# Altium schematic symbol library RES.SchLib: 321 symbols (part 2 of 3)
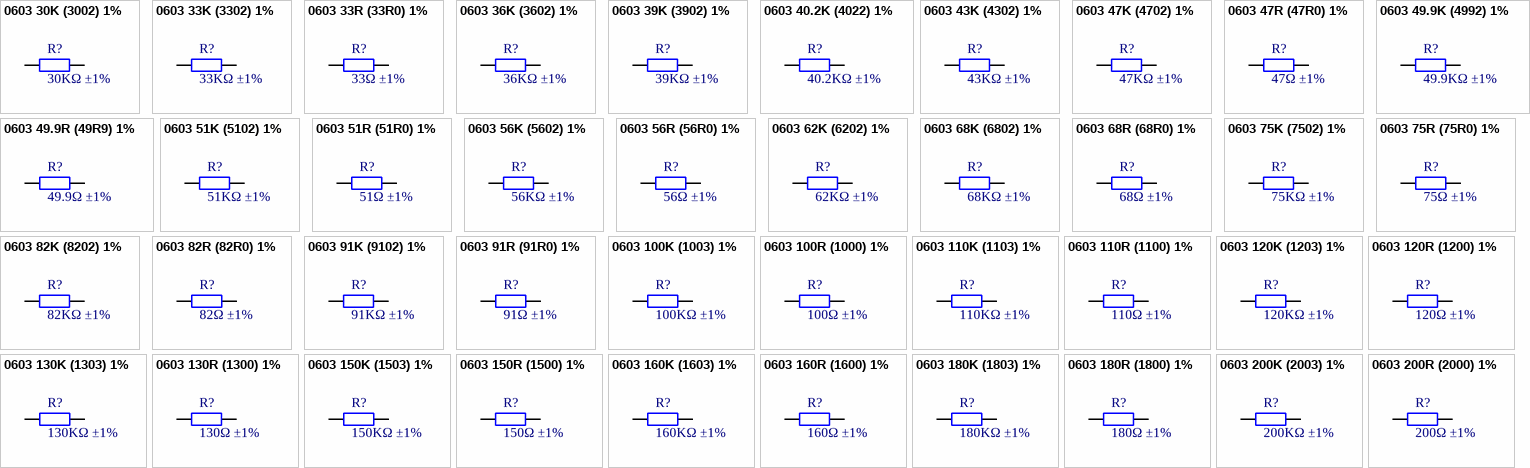
[diagram p9: symbols 0603 30K (3002) 1% to 0603 200R (2000) 1%]

## 0603 56R (56R0) 1%
designator R?, comment 56Ω ±1%
Chip resistor; Manufacturer: Uniroyal Elec; PartNumber: 0603WAF560JT5E; Power: 1/10W; ComponentLink1Description: Supplier link; ComponentLink1URL: http://www.szlcsc.com/product/details_25939.html; Package: 0603; Supplier: LC; SuppliersPartNumber: C25196; Resistance: 56Ω; Tolerance: 1%
footprint 0603_R
pins: 1, 2

## 0603 62K (6202) 1%
designator R?, comment 62KΩ ±1%
Chip resistor; Manufacturer: Uniroyal Elec; PartNumber: 0603WAF6202T5E; Power: 1/10W; ComponentLink1Description: Supplier link; ComponentLink1URL: http://www.szlcsc.com/product/details_23948.html; Package: 0603; Supplier: LC; SuppliersPartNumber: C23221; Resistance: 62KΩ; Tolerance: 1%
footprint 0603_R
pins: 1, 2

## 0603 68K (6802) 1%
designator R?, comment 68KΩ ±1%
Chip resistor; Manufacturer: Uniroyal Elec; PartNumber: 0603WAF6802T5E; Power: 1/10W; ComponentLink1Description: Supplier link; ComponentLink1URL: http://www.szlcsc.com/product/details_23958.html; Package: 0603; Supplier: LC; SuppliersPartNumber: C23231; Resistance: 68KΩ; Tolerance: 1%
footprint 0603_R
pins: 1, 2

## 0603 68R (68R0) 1%
designator R?, comment 68Ω ±1%
Chip resistor; Manufacturer: Uniroyal Elec; PartNumber: 0603WAF680JT5E; Power: 1/10W; ComponentLink1Description: Supplier link; ComponentLink1URL: http://www.szlcsc.com/product/details_28341.html; Package: 0603; Supplier: LC; SuppliersPartNumber: C27592; Resistance: 68Ω; Tolerance: 1%
footprint 0603_R
pins: 1, 2

## 0603 75K (7502) 1%
designator R?, comment 75KΩ ±1%
Chip resistor; Manufacturer: Uniroyal Elec; PartNumber: 0603WAF7502T5E; Power: 1/10W; ComponentLink1Description: Supplier link; ComponentLink1URL: http://www.szlcsc.com/product/details_23969.html; Package: 0603; Supplier: LC; SuppliersPartNumber: C23242; Resistance: 75KΩ; Tolerance: 1%
footprint 0603_R
pins: 1, 2

## 0603 75R (75R0) 1%
designator R?, comment 75Ω ±1%
Chip resistor; Manufacturer: Uniroyal Elec; PartNumber: 0603WAF750JT5E; Power: 1/10W; ComponentLink1Description: Supplier link; ComponentLink1URL: http://www.szlcsc.com/product/details_4682.html; Package: 0603; Supplier: LC; SuppliersPartNumber: C4275; Resistance: 75Ω; Tolerance: 1%
footprint 0603_R
pins: 1, 2

## 0603 82K (8202) 1%
designator R?, comment 82KΩ ±1%
Chip resistor; Manufacturer: Uniroyal Elec; PartNumber: 0603WAF8202T5E; Power: 1/10W; ComponentLink1Description: Supplier link; ComponentLink1URL: http://www.szlcsc.com/product/details_23981.html; Package: 0603; Supplier: LC; SuppliersPartNumber: C23254; Resistance: 82KΩ; Tolerance: 1%
footprint 0603_R
pins: 1, 2

## 0603 82R (82R0) 1%
designator R?, comment 82Ω ±1%
Chip resistor; Manufacturer: Uniroyal Elec; PartNumber: 0603WAF820JT5E; Power: 1/10W; ComponentLink1Description: Supplier link; ComponentLink1URL: http://www.szlcsc.com/product/details_23982.html; Package: 0603; Supplier: LC; SuppliersPartNumber: C23255; Resistance: 82Ω; Tolerance: 1%
footprint 0603_R
pins: 1, 2

## 0603 91K (9102) 1%
designator R?, comment 91KΩ ±1%
Chip resistor; Manufacturer: Uniroyal Elec; PartNumber: 0603WAF9102T5E; Power: 1/10W; ComponentLink1Description: Supplier link; ComponentLink1URL: http://www.szlcsc.com/product/details_23992.html; Package: 0603; Supplier: LC; SuppliersPartNumber: C23265; Resistance: 91KΩ; Tolerance: 1%
footprint 0603_R
pins: 1, 2

## 0603 91R (91R0) 1%
designator R?, comment 91Ω ±1%
Chip resistor; Manufacturer: Uniroyal Elec; PartNumber: 0603WAF910JT5E; Power: 1/10W; ComponentLink1Description: Supplier link; ComponentLink1URL: http://www.szlcsc.com/product/details_25942.html; Package: 0603; Supplier: LC; SuppliersPartNumber: C25199; Resistance: 91Ω; Tolerance: 1%
footprint 0603_R
pins: 1, 2

## 0603 100K (1003) 1%
designator R?, comment 100KΩ ±1%
Chip resistor; Manufacturer: Uniroyal Elec; PartNumber: 0603WAF1003T5E; Power: 1/10W; ComponentLink1Description: Supplier link; ComponentLink1URL: http://www.szlcsc.com/product/details_26546.html; Package: 0603; Supplier: LC; SuppliersPartNumber: C25803; Resistance: 100KΩ; Tolerance: 1%
footprint 0603_R
pins: 1, 2

## 0603 100R (1000) 1%
designator R?, comment 100Ω ±1%
Chip resistor; Manufacturer: Uniroyal Elec; PartNumber: 0603WAF1000T5E; Power: 1/10W; ComponentLink1Description: Supplier link; ComponentLink1URL: http://www.szlcsc.com/product/details_23502.html; Package: 0603; Supplier: LC; SuppliersPartNumber: C22775; Resistance: 100Ω; Tolerance: 1%
footprint 0603_R
pins: 1, 2

## 0603 110K (1103) 1%
designator R?, comment 110KΩ ±1%
Chip resistor; Manufacturer: Uniroyal Elec; PartNumber: 0603WAF1103T5E; Power: 1/10W; ComponentLink1Description: Supplier link; ComponentLink1URL: http://www.szlcsc.com/product/details_26548.html; Package: 0603; Supplier: LC; SuppliersPartNumber: C25805; Resistance: 110KΩ; Tolerance: 1%
footprint 0603_R
pins: 1, 2

## 0603 110R (1100) 1%
designator R?, comment 110Ω ±1%
Chip resistor; Manufacturer: Uniroyal Elec; PartNumber: 0603WAF1100T5E; Power: 1/10W; ComponentLink1Description: Supplier link; ComponentLink1URL: http://www.szlcsc.com/product/details_23508.html; Package: 0603; Supplier: LC; SuppliersPartNumber: C22781; Resistance: 110Ω; Tolerance: 1%
footprint 0603_R
pins: 1, 2

## 0603 120K (1203) 1%
designator R?, comment 120KΩ ±1%
Chip resistor; Manufacturer: Uniroyal Elec; PartNumber: 0603WAF1203T5E; Power: 1/10W; ComponentLink1Description: Supplier link; ComponentLink1URL: http://www.szlcsc.com/product/details_26551.html; Package: 0603; Supplier: LC; SuppliersPartNumber: C25808; Resistance: 120KΩ; Tolerance: 1%
footprint 0603_R
pins: 1, 2

## 0603 120R (1200) 1%
designator R?, comment 120Ω ±1%
Chip resistor; Manufacturer: Uniroyal Elec; PartNumber: 0603WAF1200T5E; Power: 1/10W; ComponentLink1Description: Supplier link; ComponentLink1URL: http://www.szlcsc.com/product/details_23514.html; Package: 0603; Supplier: LC; SuppliersPartNumber: C22787; Resistance: 120Ω; Tolerance: 1%
footprint 0603_R
pins: 1, 2

## 0603 130K (1303) 1%
designator R?, comment 130KΩ ±1%
Chip resistor; Manufacturer: Uniroyal Elec; PartNumber: 0603WAF1303T5E; Power: 1/10W; ComponentLink1Description: Supplier link; ComponentLink1URL: http://www.szlcsc.com/product/details_23522.html; Package: 0603; Supplier: LC; SuppliersPartNumber: C22795; Resistance: 130KΩ; Tolerance: 1%
footprint 0603_R
pins: 1, 2

## 0603 130R (1300) 1%
designator R?, comment 130Ω ±1%
Chip resistor; Manufacturer: Uniroyal Elec; PartNumber: 0603WAF1300T5E; Power: 1/10W; ComponentLink1Description: Supplier link; ComponentLink1URL: http://www.szlcsc.com/product/details_23523.html; Package: 0603; Supplier: LC; SuppliersPartNumber: C22796; Resistance: 130Ω; Tolerance: 1%
footprint 0603_R
pins: 1, 2

## 0603 150K (1503) 1%
designator R?, comment 150KΩ ±1%
Chip resistor; Manufacturer: Uniroyal Elec; PartNumber: 0603WAF1503T5E; Power: 1/10W; ComponentLink1Description: Supplier link; ComponentLink1URL: http://www.szlcsc.com/product/details_23534.html; Package: 0603; Supplier: LC; SuppliersPartNumber: C22807; Resistance: 150KΩ; Tolerance: 1%
footprint 0603_R
pins: 1, 2

## 0603 150R (1500) 1%
designator R?, comment 150Ω ±1%
Chip resistor; Manufacturer: Uniroyal Elec; PartNumber: 0603WAF1500T5E; Power: 1/10W; ComponentLink1Description: Supplier link; ComponentLink1URL: http://www.szlcsc.com/product/details_23535.html; Package: 0603; Supplier: LC; SuppliersPartNumber: C22808; Resistance: 150Ω; Tolerance: 1%
footprint 0603_R
pins: 1, 2

## 0603 160K (1603) 1%
designator R?, comment 160KΩ ±1%
Chip resistor; Manufacturer: Uniroyal Elec; PartNumber: 0603WAF1603T5E; Power: 1/10W; ComponentLink1Description: Supplier link; ComponentLink1URL: http://www.szlcsc.com/product/details_23540.html; Package: 0603; Supplier: LC; SuppliersPartNumber: C22813; Resistance: 160KΩ; Tolerance: 1%
footprint 0603_R
pins: 1, 2

## 0603 160R (1600) 1%
designator R?, comment 160Ω ±1%
Chip resistor; Manufacturer: Uniroyal Elec; PartNumber: 0603WAF1600T5E; Power: 1/10W; ComponentLink1Description: Supplier link; ComponentLink1URL: http://www.szlcsc.com/product/details_23541.html; Package: 0603; Supplier: LC; SuppliersPartNumber: C22814; Resistance: 160Ω; Tolerance: 1%
footprint 0603_R
pins: 1, 2

## 0603 180K (1803) 1%
designator R?, comment 180KΩ ±1%
Chip resistor; Manufacturer: Uniroyal Elec; PartNumber: 0603WAF1803T5E; Power: 1/10W; ComponentLink1Description: Supplier link; ComponentLink1URL: http://www.szlcsc.com/product/details_23554.html; Package: 0603; Supplier: LC; SuppliersPartNumber: C22827; Resistance: 180KΩ; Tolerance: 1%
footprint 0603_R
pins: 1, 2

## 0603 180R (1800) 1%
designator R?, comment 180Ω ±1%
Chip resistor; Manufacturer: Uniroyal Elec; PartNumber: 0603WAF1800T5E; Power: 1/10W; ComponentLink1Description: Supplier link; ComponentLink1URL: http://www.szlcsc.com/product/details_23555.html; Package: 0603; Supplier: LC; SuppliersPartNumber: C22828; Resistance: 180Ω; Tolerance: 1%
footprint 0603_R
pins: 1, 2

## 0603 200K (2003) 1%
designator R?, comment 200KΩ ±1%
Chip resistor; Manufacturer: Uniroyal Elec; PartNumber: 0603WAF2003T5E; Power: 1/10W; ComponentLink1Description: Supplier link; ComponentLink1URL: http://www.szlcsc.com/product/details_26554.html; Package: 0603; Supplier: LC; SuppliersPartNumber: C25811; Resistance: 200KΩ; Tolerance: 1%
footprint 0603_R
pins: 1, 2

## 0603 200R (2000) 1%
designator R?, comment 200Ω ±1%
Chip resistor; Manufacturer: Uniroyal Elec; PartNumber: 0603WAF2000T5E; Power: 1/10W; ComponentLink1Description: Supplier link; ComponentLink1URL: http://www.szlcsc.com/product/details_8708.html; Package: 0603; Supplier: LC; SuppliersPartNumber: C8218; Resistance: 200Ω; Tolerance: 1%
footprint 0603_R
pins: 1, 2

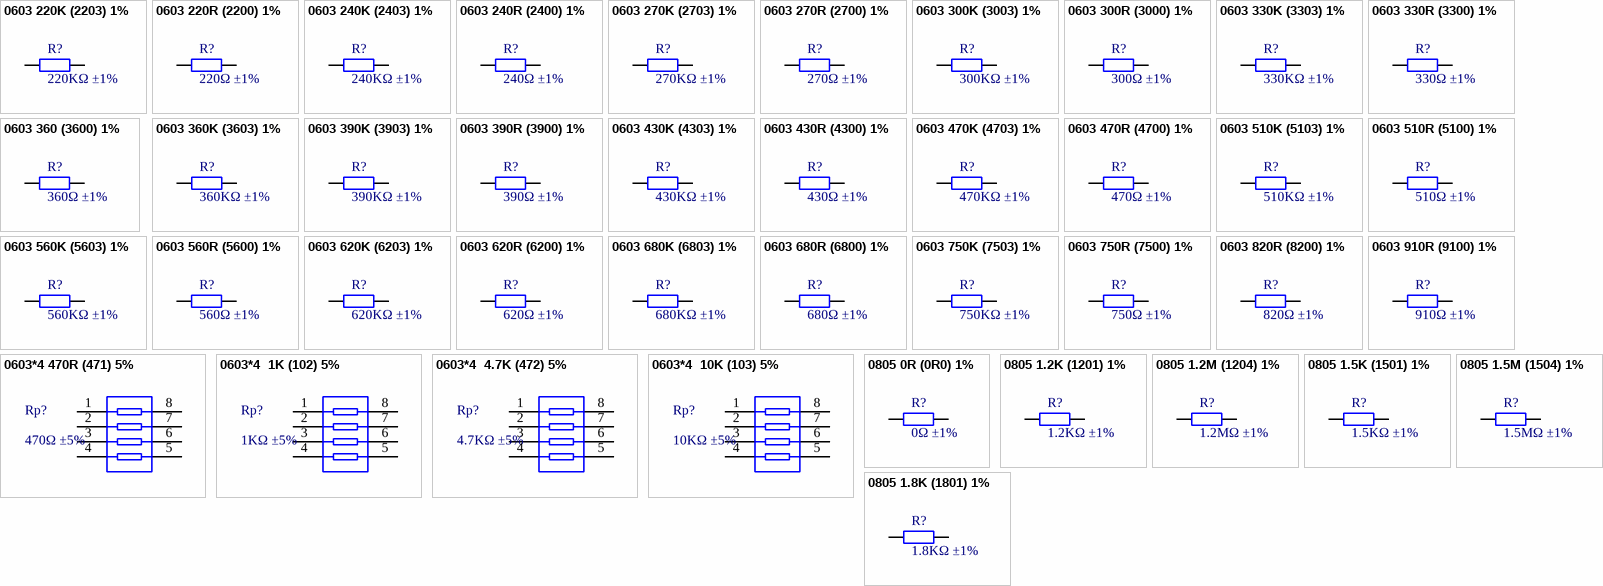
[diagram p4: symbols 0603 220K (2203) 1% to 0805 1.8K (1801) 1%]

## 0603 220K (2203) 1%
designator R?, comment 220KΩ ±1%
Chip resistor; Manufacturer: Uniroyal Elec; PartNumber: 0603WAF2203T5E; Power: 1/10W; ComponentLink1Description: Supplier link; ComponentLink1URL: http://www.szlcsc.com/product/details_23688.html; Package: 0603; Supplier: LC; SuppliersPartNumber: C22961; Resistance: 220KΩ; Tolerance: 1%
footprint 0603_R
pins: 1, 2

## 0603 220R (2200) 1%
designator R?, comment 220Ω ±1%
Chip resistor; Manufacturer: Uniroyal Elec; PartNumber: 0603WAF2200T5E; Power: 1/10W; ComponentLink1Description: Supplier link; ComponentLink1URL: http://www.szlcsc.com/product/details_23689.html; Package: 0603; Supplier: LC; SuppliersPartNumber: C22962; Resistance: 220Ω; Tolerance: 1%
footprint 0603_R
pins: 1, 2

## 0603 240K (2403) 1%
designator R?, comment 240KΩ ±1%
Chip resistor; Manufacturer: Uniroyal Elec; PartNumber: 0603WAF2403T5E; Power: 1/10W; ComponentLink1Description: Supplier link; ComponentLink1URL: http://www.szlcsc.com/product/details_4604.html; Package: 0603; Supplier: LC; SuppliersPartNumber: C4197; Resistance: 240KΩ; Tolerance: 1%
footprint 0603_R
pins: 1, 2

## 0603 240R (2400) 1%
designator R?, comment 240Ω ±1%
Chip resistor; Manufacturer: Uniroyal Elec; PartNumber: 0603WAF2400T5E; Power: 1/10W; ComponentLink1Description: Supplier link; ComponentLink1URL: http://www.szlcsc.com/product/details_24083.html; Package: 0603; Supplier: LC; SuppliersPartNumber: C23350; Resistance: 240Ω; Tolerance: 1%
footprint 0603_R
pins: 1, 2

## 0603 270K (2703) 1%
designator R?, comment 270KΩ ±1%
Chip resistor; Manufacturer: Uniroyal Elec; PartNumber: 0603WAF2703T5E; Power: 1/10W; ComponentLink1Description: Supplier link; ComponentLink1URL: http://www.szlcsc.com/product/details_23692.html; Package: 0603; Supplier: LC; SuppliersPartNumber: C22965; Resistance: 270KΩ; Tolerance: 1%
footprint 0603_R
pins: 1, 2

## 0603 270R (2700) 1%
designator R?, comment 270Ω ±1%
Chip resistor; Manufacturer: Uniroyal Elec; PartNumber: 0603WAF2700T5E; Power: 1/10W; ComponentLink1Description: Supplier link; ComponentLink1URL: http://www.szlcsc.com/product/details_23693.html; Package: 0603; Supplier: LC; SuppliersPartNumber: C22966; Resistance: 270Ω; Tolerance: 1%
footprint 0603_R
pins: 1, 2

## 0603 300K (3003) 1%
designator R?, comment 300KΩ ±1%
Chip resistor; Manufacturer: Uniroyal Elec; PartNumber: 0603WAF3003T5E; Power: 1/10W; ComponentLink1Description: Supplier link; ComponentLink1URL: http://www.szlcsc.com/product/details_23751.html; Package: 0603; Supplier: LC; SuppliersPartNumber: C23024; Resistance: 300KΩ; Tolerance: 1%
footprint 0603_R
pins: 1, 2

## 0603 300R (3000) 1%
designator R?, comment 300Ω ±1%
Chip resistor; Manufacturer: Uniroyal Elec; PartNumber: 0603WAF3000T5E; Power: 1/10W; ComponentLink1Description: Supplier link; ComponentLink1URL: http://www.szlcsc.com/product/details_23752.html; Package: 0603; Supplier: LC; SuppliersPartNumber: C23025; Resistance: 300Ω; Tolerance: 1%
footprint 0603_R
pins: 1, 2

## 0603 330K (3303) 1%
designator R?, comment 330KΩ ±1%
Chip resistor; Manufacturer: Uniroyal Elec; PartNumber: 0603WAF3303T5E; Power: 1/10W; ComponentLink1Description: Supplier link; ComponentLink1URL: http://www.szlcsc.com/product/details_23864.html; Package: 0603; Supplier: LC; SuppliersPartNumber: C23137; Resistance: 330KΩ; Tolerance: 1%
footprint 0603_R
pins: 1, 2

## 0603 330R (3300) 1%
designator R?, comment 330Ω ±1%
Chip resistor; Manufacturer: Uniroyal Elec; PartNumber: 0603WAF3300T5E; Power: 1/10W; ComponentLink1Description: Supplier link; ComponentLink1URL: http://www.szlcsc.com/product/details_23865.html; Package: 0603; Supplier: LC; SuppliersPartNumber: C23138; Resistance: 330Ω; Tolerance: 1%
footprint 0603_R
pins: 1, 2

## 0603 360 (3600) 1%
designator R?, comment 360Ω ±1%
Chip resistor; Manufacturer: Uniroyal Elec; PartNumber: -----0603WAF3600T5E; Power: 1/10W; ComponentLink1Description: Supplier link; ComponentLink1URL: http://www.szlcsc.com/product/details_25937.html; Package: 0603; Supplier: LC; SuppliersPartNumber: C25194; Resistance: 360Ω; Tolerance: 1%
footprint 0603_R
pins: 1, 2

## 0603 360K (3603) 1%
designator R?, comment 360KΩ ±1%
Chip resistor; Manufacturer: Uniroyal Elec; PartNumber: 0603WAF3603T5E; Power: 1/10W; ComponentLink1Description: Supplier link; ComponentLink1URL: http://www.szlcsc.com/product/details_23873.html; Package: 0603; Supplier: LC; SuppliersPartNumber: C23146; Resistance: 360KΩ; Tolerance: 1%
footprint 0603_R
pins: 1, 2

## 0603 390K (3903) 1%
designator R?, comment 390KΩ ±1%
Chip resistor; Manufacturer: Uniroyal Elec; PartNumber: 0603WAF3903T5E; Power: 1/10W; ComponentLink1Description: Supplier link; ComponentLink1URL: http://www.szlcsc.com/product/details_23877.html; Package: 0603; Supplier: LC; SuppliersPartNumber: C23150; Resistance: 390KΩ; Tolerance: 1%
footprint 0603_R
pins: 1, 2

## 0603 390R (3900) 1%
designator R?, comment 390Ω ±1%
Chip resistor; Manufacturer: Uniroyal Elec; PartNumber: 0603WAF3900T5E; Power: 1/10W; ComponentLink1Description: Supplier link; ComponentLink1URL: http://www.szlcsc.com/product/details_23878.html; Package: 0603; Supplier: LC; SuppliersPartNumber: C23151; Resistance: 390Ω; Tolerance: 1%
footprint 0603_R
pins: 1, 2

## 0603 430K (4303) 1%
designator R?, comment 430KΩ ±1%
Chip resistor; Manufacturer: Uniroyal Elec; PartNumber: 0603WAF4303T5E; Power: 1/10W; ComponentLink1Description: Supplier link; ComponentLink1URL: http://www.szlcsc.com/product/details_26712.html; Package: 0603; Supplier: LC; SuppliersPartNumber: C25969; Resistance: 430KΩ; Tolerance: 1%
footprint 0603_R
pins: 1, 2

## 0603 430R (4300) 1%
designator R?, comment 430Ω ±1%
Chip resistor; Manufacturer: Uniroyal Elec; PartNumber: 0603WAF4300T5E; Power: 1/10W; ComponentLink1Description: Supplier link; ComponentLink1URL: http://www.szlcsc.com/product/details_23897.html; Package: 0603; Supplier: LC; SuppliersPartNumber: C23170; Resistance: 430Ω; Tolerance: 1%
footprint 0603_R
pins: 1, 2

## 0603 470K (4703) 1%
designator R?, comment 470KΩ ±1%
Chip resistor; Manufacturer: Uniroyal Elec; PartNumber: 0603WAF4703T5E; Power: 1/10W; ComponentLink1Description: Supplier link; ComponentLink1URL: http://www.szlcsc.com/product/details_23905.html; Package: 0603; Supplier: LC; SuppliersPartNumber: C23178; Resistance: 470KΩ; Tolerance: 1%
footprint 0603_R
pins: 1, 2

## 0603 470R (4700) 1%
designator R?, comment 470Ω ±1%
Chip resistor; Manufacturer: Uniroyal Elec; PartNumber: 0603WAF4700T5E; Power: 1/10W; ComponentLink1Description: Supplier link; ComponentLink1URL: http://www.szlcsc.com/product/details_23906.html; Package: 0603; Supplier: LC; SuppliersPartNumber: C23179; Resistance: 470Ω; Tolerance: 1%
footprint 0603_R
pins: 1, 2

## 0603 510K (5103) 1%
designator R?, comment 510KΩ ±1%
Chip resistor; Manufacturer: Uniroyal Elec; PartNumber: 0603WAF5103T5E; Power: 1/10W; ComponentLink1Description: Supplier link; ComponentLink1URL: http://www.szlcsc.com/product/details_23919.html; Package: 0603; Supplier: LC; SuppliersPartNumber: C23192; Resistance: 510KΩ; Tolerance: 1%
footprint 0603_R
pins: 1, 2

## 0603 510R (5100) 1%
designator R?, comment 510Ω ±1%
Chip resistor; Manufacturer: Uniroyal Elec; PartNumber: 0603WAF5100T5E; Power: 1/10W; ComponentLink1Description: Supplier link; ComponentLink1URL: http://www.szlcsc.com/product/details_23920.html; Package: 0603; Supplier: LC; SuppliersPartNumber: C23193; Resistance: 510Ω; Tolerance: 1%
footprint 0603_R
pins: 1, 2

## 0603 560K (5603) 1%
designator R?, comment 560KΩ ±1%
Chip resistor; Manufacturer: Uniroyal Elec; PartNumber: 0603WAF5603T5E; Power: 1/10W; ComponentLink1Description: Supplier link; ComponentLink1URL: http://www.szlcsc.com/product/details_23930.html; Package: 0603; Supplier: LC; SuppliersPartNumber: C23203; Resistance: 560KΩ; Tolerance: 1%
footprint 0603_R
pins: 1, 2

## 0603 560R (5600) 1%
designator R?, comment 560Ω ±1%
Chip resistor; Manufacturer: Uniroyal Elec; PartNumber: 0603WAF5600T5E; Power: 1/10W; ComponentLink1Description: Supplier link; ComponentLink1URL: http://www.szlcsc.com/product/details_23931.html; Package: 0603; Supplier: LC; SuppliersPartNumber: C23204; Resistance: 560Ω; Tolerance: 1%
footprint 0603_R
pins: 1, 2

## 0603 620K (6203) 1%
designator R?, comment 620KΩ ±1%
Chip resistor; Manufacturer: Uniroyal Elec; PartNumber: 0603WAF6203T5E; Power: 1/10W; ComponentLink1Description: Supplier link; ComponentLink1URL: http://www.szlcsc.com/product/details_23946.html; Package: 0603; Supplier: LC; SuppliersPartNumber: C23219; Resistance: 620KΩ; Tolerance: 1%
footprint 0603_R
pins: 1, 2

## 0603 620R (6200) 1%
designator R?, comment 620Ω ±1%
Chip resistor; Manufacturer: Uniroyal Elec; PartNumber: 0603WAF6200T5E; Power: 1/10W; ComponentLink1Description: Supplier link; ComponentLink1URL: http://www.szlcsc.com/product/details_23947.html; Package: 0603; Supplier: LC; SuppliersPartNumber: C23220; Resistance: 620Ω; Tolerance: 1%
footprint 0603_R
pins: 1, 2

## 0603 680K (6803) 1%
designator R?, comment 680KΩ ±1%
Chip resistor; Manufacturer: Uniroyal Elec; PartNumber: 0603WAF6803T5E; Power: 1/10W; ComponentLink1Description: Supplier link; ComponentLink1URL: http://www.szlcsc.com/product/details_26565.html; Package: 0603; Supplier: LC; SuppliersPartNumber: C25822; Resistance: 680KΩ; Tolerance: 1%
footprint 0603_R
pins: 1, 2

## 0603 680R (6800) 1%
designator R?, comment 680Ω ±1%
Chip resistor; Manufacturer: Uniroyal Elec; PartNumber: 0603WAF6800T5E; Power: 1/10W; ComponentLink1Description: Supplier link; ComponentLink1URL: http://www.szlcsc.com/product/details_23955.html; Package: 0603; Supplier: LC; SuppliersPartNumber: C23228; Resistance: 680Ω; Tolerance: 1%
footprint 0603_R
pins: 1, 2

## 0603 750K (7503) 1%
designator R?, comment 750KΩ ±1%
Chip resistor; Manufacturer: Uniroyal Elec; PartNumber: 0603WAF7501T5E; Power: 1/10W; ComponentLink1Description: Supplier link; ComponentLink1URL: http://www.szlcsc.com/product/details_23967.html; Package: 0603; Supplier: LC; SuppliersPartNumber: C23240; Resistance: 750KΩ; Tolerance: 1%
footprint 0603_R
pins: 1, 2

## 0603 750R (7500) 1%
designator R?, comment 750Ω ±1%
Chip resistor; Manufacturer: Uniroyal Elec; PartNumber: 0603WAF7500T5E; Power: 1/10W; ComponentLink1Description: Supplier link; ComponentLink1URL: http://www.szlcsc.com/product/details_23968.html; Package: 0603; Supplier: LC; SuppliersPartNumber: C23241; Resistance: 750Ω; Tolerance: 1%
footprint 0603_R
pins: 1, 2

## 0603 820R (8200) 1%
designator R?, comment 820Ω ±1%
Chip resistor; Manufacturer: Uniroyal Elec; PartNumber: 0603WAF8200T5E; Power: 1/10W; ComponentLink1Description: Supplier link; ComponentLink1URL: http://www.szlcsc.com/product/details_23980.html; Package: 0603; Supplier: LC; SuppliersPartNumber: C23253; Resistance: 820Ω; Tolerance: 1%
footprint 0603_R
pins: 1, 2

## 0603 910R (9100) 1%
designator R?, comment 910Ω ±1%
Chip resistor; Manufacturer: Uniroyal Elec; PartNumber: 0603WAF9100T5E; Power: 1/10W; ComponentLink1Description: Supplier link; ComponentLink1URL: http://www.szlcsc.com/product/details_23991.html; Package: 0603; Supplier: LC; SuppliersPartNumber: C23264; Resistance: 910Ω; Tolerance: 1%
footprint 0603_R
pins: 1, 2

## 0603*4 470R (471) 5%
designator Rp?, comment 470Ω ±5%
Resistor Array; Manufacturer: Uniroyal Elec; PartNumber: 4D03WGJ0471T5E; Power: 1/16W; ComponentLink1Description: Supplier link; ComponentLink1URL: http://www.szlcsc.com/product/details_26253.html; Package: 0603*4; Supplier: LC; SuppliersPartNumber: C25510; Resistance: 470Ω; Tolerance: 5%
footprint 0603_Rx4
pins: 1, 2, 3, 4, 5, 6, 7, 8

## 0603*4  1K (102) 5%
designator Rp?, comment 1KΩ ±5%
Resistor Array; PartNumber: 4D02WGJ0330TCE; Manufacturer: Uniroyal Elec; Power: 1/16W; ComponentLink1Description: Supplier link; ComponentLink1URL: http://www.szlcsc.com/product/details_20907.html; Package: 0603*4; Supplier: LC; SuppliersPartNumber: C20197; Resistance: 1KΩ; Tolerance: 5%
footprint 0603_Rx4
pins: 1, 2, 3, 4, 5, 6, 7, 8

## 0603*4  4.7K (472) 5%
designator Rp?, comment 4.7KΩ ±5%
Resistor Array; PartNumber: 4D03WGJ0472T5E; Manufacturer: Uniroyal Elec; Power: 1/16W; ComponentLink1Description: Supplier link; ComponentLink1URL: http://www.szlcsc.com/product/details_2332.html; Package: 0603*4; Supplier: LC; SuppliersPartNumber: C1980; Tolerance: 5%; Resistance: 4.7KΩ
footprint 0603_Rx4
pins: 1, 2, 3, 4, 5, 6, 7, 8

## 0603*4  10K (103) 5%
designator Rp?, comment 10KΩ ±5%
Resistor Array; Manufacturer: Uniroyal Elec; PartNumber: 4D03WGJ0103T5E; Power: 1/16W; ComponentLink1Description: Supplier link; ComponentLink1URL: http://www.szlcsc.com/product/details_30472.html; Package: 0603*4; Supplier: LC; SuppliersPartNumber: C29718; Resistance: 10KΩ; Tolerance: 5%
footprint 0603_Rx4
pins: 1, 2, 3, 4, 5, 6, 7, 8

## 0805 0R (0R0) 1%
designator R?, comment 0Ω ±1%
Chip resistor; Manufacturer: Uniroyal Elec; Power: 1/8W; ComponentLink1Description: Supplier link; ComponentLink1URL: http://www.szlcsc.com/product/details_18165.html; Package: 0805; Supplier: LC; SuppliersPartNumber: C17477; Tolerance: 1%
footprint 0805_R
pins: 1, 2

## 0805 1.2K (1201) 1%
designator R?, comment 1.2KΩ ±1%
Chip resistor; Manufacturer: Uniroyal Elec; Power: 1/8W; ComponentLink1Description: Supplier link; ComponentLink1URL: http://www.szlcsc.com/product/details_18067.html; Package: 0805; Supplier: LC; SuppliersPartNumber: C17379; Tolerance: 1%
footprint 0805_R
pins: 1, 2

## 0805 1.2M (1204) 1%
designator R?, comment 1.2MΩ ±1%
Chip resistor; Manufacturer: Uniroyal Elec; Power: 1/8W; ComponentLink1Description: Supplier link; ComponentLink1URL: http://www.szlcsc.com/product/details_18068.html; Package: 0805; Supplier: LC; SuppliersPartNumber: C17380; Tolerance: 1%
footprint 0805_R
pins: 1, 2

## 0805 1.5K (1501) 1%
designator R?, comment 1.5KΩ ±1%
Chip resistor; Manufacturer: Uniroyal Elec; Power: 1/8W; ComponentLink1Description: Supplier link; ComponentLink1URL: http://www.szlcsc.com/product/details_4717.html; Package: 0805; Supplier: LC; SuppliersPartNumber: C4310; Tolerance: 1%
footprint 0805_R
pins: 1, 2

## 0805 1.5M (1504) 1%
designator R?, comment 1.5MΩ ±1%
Chip resistor; Manufacturer: Uniroyal Elec; Power: 1/8W; ComponentLink1Description: Supplier link; ComponentLink1URL: http://www.szlcsc.com/product/details_26853.html; Package: 0805; Supplier: LC; SuppliersPartNumber: C26110; Tolerance: 1%
footprint 0805_R
pins: 1, 2

## 0805 1.8K (1801) 1%
designator R?, comment 1.8KΩ ±1%
Chip resistor; Manufacturer: Uniroyal Elec; Power: 1/8W; ComponentLink1Description: Supplier link; ComponentLink1URL: http://www.szlcsc.com/product/details_18086.html; Package: 0805; Supplier: LC; SuppliersPartNumber: C17398; Tolerance: 1%
footprint 0805_R
pins: 1, 2

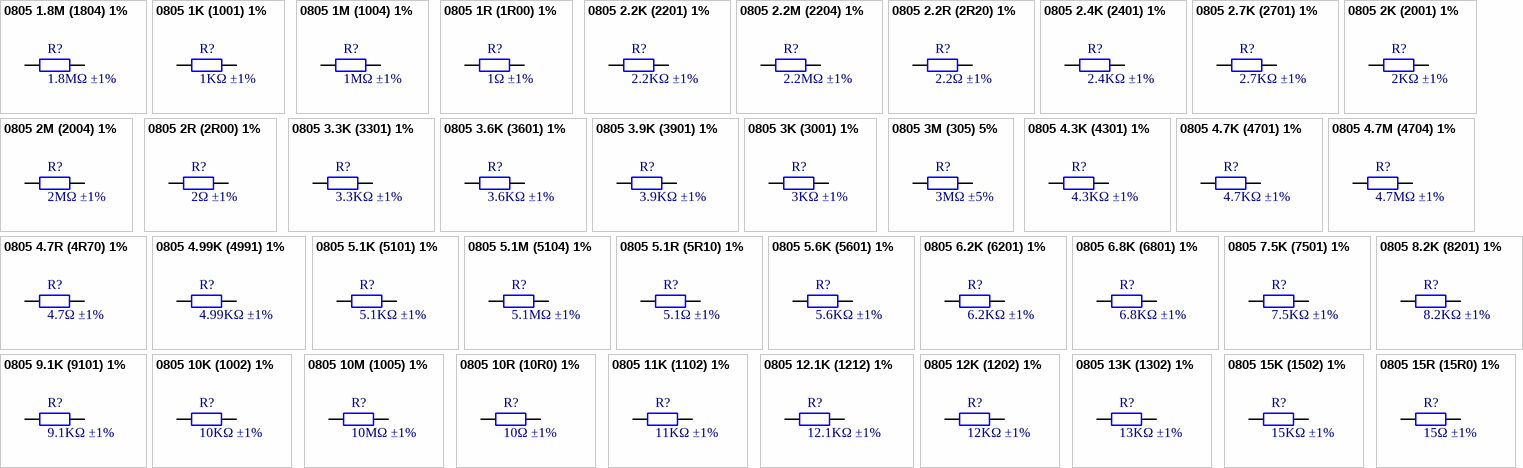
[diagram p5: symbols 0805 1.8M (1804) 1% to 0805 15R (15R0) 1%]

## 0805 1.8M (1804) 1%
designator R?, comment 1.8MΩ ±1%
Chip resistor; Manufacturer: Uniroyal Elec; Power: 1/8W; ComponentLink1Description: Supplier link; ComponentLink1URL: http://www.szlcsc.com/product/details_18087.html; Package: 0805; Supplier: LC; SuppliersPartNumber: C17399; Tolerance: 1%
footprint 0805_R
pins: 1, 2

## 0805 1K (1001) 1%
designator R?, comment 1KΩ ±1%
Chip resistor; Manufacturer: Uniroyal Elec; PartNumber: 0805W8F1001T5E; Power: 1/8W; ComponentLink1Description: Supplier link; ComponentLink1URL: http://www.szlcsc.com/product/details_18201.html; Package: 0805; Supplier: LC; SuppliersPartNumber: C17513; Resistance: 1KΩ; Tolerance: 1%
footprint 0805_R
pins: 1, 2

## 0805 1M (1004) 1%
designator R?, comment 1MΩ ±1%
Chip resistor; Manufacturer: Uniroyal Elec; Power: 1/8W; ComponentLink1Description: Supplier link; ComponentLink1URL: http://www.szlcsc.com/product/details_18202.html; Package: 0805; Supplier: LC; SuppliersPartNumber: C17514; Tolerance: 1%
footprint 0805_R
pins: 1, 2

## 0805 1R (1R00) 1%
designator R?, comment 1Ω ±1%
Chip resistor; Manufacturer: Uniroyal Elec; Power: 1/8W; ComponentLink1Description: Supplier link; ComponentLink1URL: http://www.szlcsc.com/product/details_26014.html; Package: 0805; Supplier: LC; SuppliersPartNumber: C25271; Tolerance: 1%
footprint 0805_R
pins: 1, 2

## 0805 2.2K (2201) 1%
designator R?, comment 2.2KΩ ±1%
Chip resistor; Manufacturer: Uniroyal Elec; PartNumber: 0805W8F2201T5E; Power: 1/8W; ComponentLink1Description: Supplier link; ComponentLink1URL: http://www.szlcsc.com/product/details_18208.html; Package: 0805; Supplier: LC; SuppliersPartNumber: C17520; Resistance: 2.2KΩ; Tolerance: 1%
footprint 0805_R
pins: 1, 2

## 0805 2.2M (2204) 1%
designator R?, comment 2.2MΩ ±1%
Chip resistor; Manufacturer: Uniroyal Elec; PartNumber: 0805W8F2204T5E; Power: 1/8W; ComponentLink1Description: Supplier link; ComponentLink1URL: http://www.szlcsc.com/product/details_26856.html; Package: 0805; Supplier: LC; SuppliersPartNumber: C26113; Resistance: 2.2MΩ; Tolerance: 1%
footprint 0805_R
pins: 1, 2

## 0805 2.2R (2R20) 1%
designator R?, comment 2.2Ω ±1%
Chip resistor; Manufacturer: Uniroyal Elec; PartNumber: 0805W8F220KT5E; Power: 1/8W; ComponentLink1Description: Supplier link; ComponentLink1URL: http://www.szlcsc.com/product/details_18209.html; Package: 0805; Supplier: LC; SuppliersPartNumber: C17521; Resistance: 2.2Ω; Tolerance: 1%
footprint 0805_R
pins: 1, 2

## 0805 2.4K (2401) 1%
designator R?, comment 2.4KΩ ±1%
Chip resistor; Manufacturer: Uniroyal Elec; Power: 1/8W; ComponentLink1Description: Supplier link; ComponentLink1URL: http://www.szlcsc.com/product/details_18214.html; Package: 0805; Supplier: LC; SuppliersPartNumber: C17526; Tolerance: 1%
footprint 0805_R
pins: 1, 2

## 0805 2.7K (2701) 1%
designator R?, comment 2.7KΩ ±1%
Chip resistor; Manufacturer: Uniroyal Elec; Power: 1/8W; ComponentLink1Description: Supplier link; ComponentLink1URL: http://www.szlcsc.com/product/details_18218.html; Package: 0805; Supplier: LC; SuppliersPartNumber: C17530; Tolerance: 1%
footprint 0805_R
pins: 1, 2

## 0805 2K (2001) 1%
designator R?, comment 2KΩ ±1%
Chip resistor; Manufacturer: Uniroyal Elec; Power: 1/8W; ComponentLink1Description: Supplier link; ComponentLink1URL: http://www.szlcsc.com/product/details_18292.html; Package: 0805; Supplier: LC; SuppliersPartNumber: C17604; Tolerance: 1%
footprint 0805_R
pins: 1, 2

## 0805 2M (2004) 1%
designator R?, comment 2MΩ ±1%
Chip resistor; Manufacturer: Uniroyal Elec; Power: 1/8W; ComponentLink1Description: Supplier link; ComponentLink1URL: http://www.szlcsc.com/product/details_26855.html; Package: 0805; Supplier: LC; SuppliersPartNumber: C26112; Tolerance: 1%
footprint 0805_R
pins: 1, 2

## 0805 2R (2R00) 1%
designator R?, comment 2Ω ±1%
Chip resistor; Manufacturer: Uniroyal Elec; Power: 1/8W; ComponentLink1Description: Supplier link; ComponentLink1URL: http://www.szlcsc.com/product/details_18294.html; Package: 0805; Supplier: LC; SuppliersPartNumber: C17606; Tolerance: 1%
footprint 0805_R
pins: 1, 2

## 0805 3.3K (3301) 1%
designator R?, comment 3.3KΩ ±1%
Chip resistor; Manufacturer: Uniroyal Elec; Power: 1/8W; ComponentLink1Description: Supplier link; ComponentLink1URL: http://www.szlcsc.com/product/details_26753.html; Package: 0805; Supplier: LC; SuppliersPartNumber: C26010; Tolerance: 1%
footprint 0805_R
pins: 1, 2

## 0805 3.6K (3601) 1%
designator R?, comment 3.6KΩ ±1%
Chip resistor; Manufacturer: Uniroyal Elec; Power: 1/8W; ComponentLink1Description: Supplier link; ComponentLink1URL: http://www.szlcsc.com/product/details_19056.html; Package: 0805; Supplier: LC; SuppliersPartNumber: C18359; Tolerance: 1%
footprint 0805_R
pins: 1, 2

## 0805 3.9K (3901) 1%
designator R?, comment 3.9KΩ ±1%
Chip resistor; Manufacturer: Uniroyal Elec; Power: 1/8W; ComponentLink1Description: Supplier link; ComponentLink1URL: http://www.szlcsc.com/product/details_18302.html; Package: 0805; Supplier: LC; SuppliersPartNumber: C17614; Tolerance: 1%
footprint 0805_R
pins: 1, 2

## 0805 3K (3001) 1%
designator R?, comment 3KΩ ±1%
Chip resistor; Manufacturer: Uniroyal Elec; Power: 1/8W; ComponentLink1Description: Supplier link; ComponentLink1URL: http://www.szlcsc.com/product/details_18349.html; Package: 0805; Supplier: LC; SuppliersPartNumber: C17661; Tolerance: 1%
footprint 0805_R
pins: 1, 2

## 0805 3M (305) 5%
designator R?, comment 3MΩ ±5%
Chip resistor; Manufacturer: Uniroyal Elec; Power: 1/8W; Tolerance: 1%; ComponentLink1Description: Supplier link; ComponentLink1URL: http://www.szlcsc.com/product/details_26860.html; Package: 0805; Supplier: LC; SuppliersPartNumber: C26117
footprint 0805_R
pins: 1, 2

## 0805 4.3K (4301) 1%
designator R?, comment 4.3KΩ ±1%
Chip resistor; Manufacturer: Uniroyal Elec; Power: 1/8W; ComponentLink1Description: Supplier link; ComponentLink1URL: http://www.szlcsc.com/product/details_18355.html; Package: 0805; Supplier: LC; SuppliersPartNumber: C17667; Tolerance: 1%
footprint 0805_R
pins: 1, 2

## 0805 4.7K (4701) 1%
designator R?, comment 4.7KΩ ±1%
Chip resistor; Manufacturer: Uniroyal Elec; Power: 1/8W; ComponentLink1Description: Supplier link; ComponentLink1URL: http://www.szlcsc.com/product/details_18361.html; Package: 0805; Supplier: LC; SuppliersPartNumber: C17673; Tolerance: 1%
footprint 0805_R
pins: 1, 2

## 0805 4.7M (4704) 1%
designator R?, comment 4.7MΩ ±1%
Chip resistor; Manufacturer: Uniroyal Elec; Power: 1/8W; ComponentLink1Description: Supplier link; ComponentLink1URL: http://www.szlcsc.com/product/details_18362.html; Package: 0805; Supplier: LC; SuppliersPartNumber: C17674; Tolerance: 1%
footprint 0805_R
pins: 1, 2

## 0805 4.7R (4R70) 1%
designator R?, comment 4.7Ω ±1%
Chip resistor; Manufacturer: Uniroyal Elec; Power: 1/8W; ComponentLink1Description: Supplier link; ComponentLink1URL: http://www.szlcsc.com/product/details_18363.html; Package: 0805; Supplier: LC; SuppliersPartNumber: C17675; Tolerance: 1%
footprint 0805_R
pins: 1, 2

## 0805 4.99K (4991) 1%
designator R?, comment 4.99KΩ ±1%
Chip resistor; Manufacturer: Uniroyal Elec; Power: 1/8W; ComponentLink1Description: Supplier link; ComponentLink1URL: http://www.szlcsc.com/product/details_18365.html; Package: 0805; Supplier: LC; SuppliersPartNumber: C17677; Tolerance: 1%
footprint 0805_R
pins: 1, 2

## 0805 5.1K (5101) 1%
designator R?, comment 5.1KΩ ±1%
Chip resistor; Manufacturer: Uniroyal Elec; Power: 1/8W; ComponentLink1Description: Supplier link; ComponentLink1URL: http://www.szlcsc.com/product/details_28584.html; Package: 0805; Supplier: LC; SuppliersPartNumber: C27834; Tolerance: 1%
footprint 0805_R
pins: 1, 2

## 0805 5.1M (5104) 1%
designator R?, comment 5.1MΩ ±1%
Chip resistor; Manufacturer: Uniroyal Elec; Power: 1/8W; ComponentLink1Description: Supplier link; ComponentLink1URL: http://www.szlcsc.com/product/details_26857.html; Package: 0805; Supplier: LC; SuppliersPartNumber: C26114; Tolerance: 1%
footprint 0805_R
pins: 1, 2

## 0805 5.1R (5R10) 1%
designator R?, comment 5.1Ω ±1%
Chip resistor; Manufacturer: Uniroyal Elec; Power: 1/8W; ComponentLink1Description: Supplier link; ComponentLink1URL: http://www.szlcsc.com/product/details_18412.html; Package: 0805; Supplier: LC; SuppliersPartNumber: C17724; Tolerance: 1%
footprint 0805_R
pins: 1, 2

## 0805 5.6K (5601) 1%
designator R?, comment 5.6KΩ ±1%
Chip resistor; Manufacturer: Uniroyal Elec; Power: 1/8W; ComponentLink1Description: Supplier link; ComponentLink1URL: http://www.szlcsc.com/product/details_4789.html; Package: 0805; Supplier: LC; SuppliersPartNumber: C4382; Tolerance: 1%
footprint 0805_R
pins: 1, 2

## 0805 6.2K (6201) 1%
designator R?, comment 6.2KΩ ±1%
Chip resistor; Manufacturer: Uniroyal Elec; Power: 1/8W; ComponentLink1Description: Supplier link; ComponentLink1URL: http://www.szlcsc.com/product/details_18455.html; Package: 0805; Supplier: LC; SuppliersPartNumber: C17767; Tolerance: 1%
footprint 0805_R
pins: 1, 2

## 0805 6.8K (6801) 1%
designator R?, comment 6.8KΩ ±1%
Chip resistor; Manufacturer: Uniroyal Elec; Power: 1/8W; ComponentLink1Description: Supplier link; ComponentLink1URL: http://www.szlcsc.com/product/details_18460.html; Package: 0805; Supplier: LC; SuppliersPartNumber: C17772; Tolerance: 1%
footprint 0805_R
pins: 1, 2

## 0805 7.5K (7501) 1%
designator R?, comment 7.5KΩ ±1%
Chip resistor; Manufacturer: Uniroyal Elec; Power: 1/8W; ComponentLink1Description: Supplier link; ComponentLink1URL: http://www.szlcsc.com/product/details_18495.html; Package: 0805; Supplier: LC; SuppliersPartNumber: C17807; Tolerance: 1%
footprint 0805_R
pins: 1, 2

## 0805 8.2K (8201) 1%
designator R?, comment 8.2KΩ ±1%
Chip resistor; Manufacturer: Uniroyal Elec; Power: 1/8W; ComponentLink1Description: Supplier link; ComponentLink1URL: http://www.szlcsc.com/product/details_18516.html; Package: 0805; Supplier: LC; SuppliersPartNumber: C17828; Tolerance: 1%
footprint 0805_R
pins: 1, 2

## 0805 9.1K (9101) 1%
designator R?, comment 9.1KΩ ±1%
Chip resistor; Manufacturer: Uniroyal Elec; Power: 1/8W; ComponentLink1Description: Supplier link; ComponentLink1URL: http://www.szlcsc.com/product/details_18543.html; Package: 0805; Supplier: LC; SuppliersPartNumber: C17855; Tolerance: 1%
footprint 0805_R
pins: 1, 2

## 0805 10K (1002) 1%
designator R?, comment 10KΩ ±1%
Chip resistor; Manufacturer: Uniroyal Elec; PartNumber: 0805W8F1002T5E; Power: 1/8W; ComponentLink1Description: Supplier link; ComponentLink1URL: http://www.szlcsc.com/product/details_18102.html; Package: 0805; Supplier: LC; SuppliersPartNumber: C17414; Resistance: 10KΩ; Tolerance: 1%
footprint 0805_R
pins: 1, 2

## 0805 10M (1005) 1%
designator R?, comment 10MΩ ±1%
Chip resistor; Manufacturer: Uniroyal Elec; Power: 1/8W; ComponentLink1Description: Supplier link; ComponentLink1URL: http://www.szlcsc.com/product/details_26851.html; Package: 0805; Supplier: LC; SuppliersPartNumber: C26108; Tolerance: 1%
footprint 0805_R
pins: 1, 2

## 0805 10R (10R0) 1%
designator R?, comment 10Ω ±1%
Chip resistor; Manufacturer: Uniroyal Elec; Power: 1/8W; ComponentLink1Description: Supplier link; ComponentLink1URL: http://www.szlcsc.com/product/details_18103.html; Package: 0805; Supplier: LC; SuppliersPartNumber: C17415; Tolerance: 1%
footprint 0805_R
pins: 1, 2

## 0805 11K (1102) 1%
designator R?, comment 11KΩ ±1%
Chip resistor; Manufacturer: Uniroyal Elec; Power: 1/8W; ComponentLink1Description: Supplier link; ComponentLink1URL: http://www.szlcsc.com/product/details_18117.html; Package: 0805; Supplier: LC; SuppliersPartNumber: C17429; Tolerance: 1%
footprint 0805_R
pins: 1, 2

## 0805 12.1K (1212) 1%
designator R?, comment 12.1KΩ ±1%
Chip resistor; Manufacturer: Uniroyal Elec; Power: 1/8W; ComponentLink1Description: Supplier link; ComponentLink1URL: https://item.szlcsc.com/18119.html; Package: 0805; Supplier: LC; SuppliersPartNumber: C17431; Tolerance: 1%
footprint 0805_R
pins: 1, 2

## 0805 12K (1202) 1%
designator R?, comment 12KΩ ±1%
Chip resistor; Manufacturer: Uniroyal Elec; Power: 1/8W; ComponentLink1Description: Supplier link; ComponentLink1URL: http://www.szlcsc.com/product/details_18132.html; Package: 0805; Supplier: LC; SuppliersPartNumber: C17444; Tolerance: 1%
footprint 0805_R
pins: 1, 2

## 0805 13K (1302) 1%
designator R?, comment 13KΩ ±1%
Chip resistor; Manufacturer: Uniroyal Elec; Power: 1/8W; ComponentLink1Description: Supplier link; ComponentLink1URL: http://www.szlcsc.com/product/details_18143.html; Package: 0805; Supplier: LC; SuppliersPartNumber: C17455; Tolerance: 1%
footprint 0805_R
pins: 1, 2

## 0805 15K (1502) 1%
designator R?, comment 15KΩ ±1%
Chip resistor; Manufacturer: Uniroyal Elec; Power: 1/8W; ComponentLink1Description: Supplier link; ComponentLink1URL: http://www.szlcsc.com/product/details_18163.html; Package: 0805; Supplier: LC; SuppliersPartNumber: C17475; Tolerance: 1%
footprint 0805_R
pins: 1, 2

## 0805 15R (15R0) 1%
designator R?, comment 15Ω ±1%
Chip resistor; Manufacturer: Uniroyal Elec; Power: 1/8W; ComponentLink1Description: Supplier link; ComponentLink1URL: http://www.szlcsc.com/product/details_18168.html; Package: 0805; Supplier: LC; SuppliersPartNumber: C17480; Tolerance: 1%
footprint 0805_R
pins: 1, 2

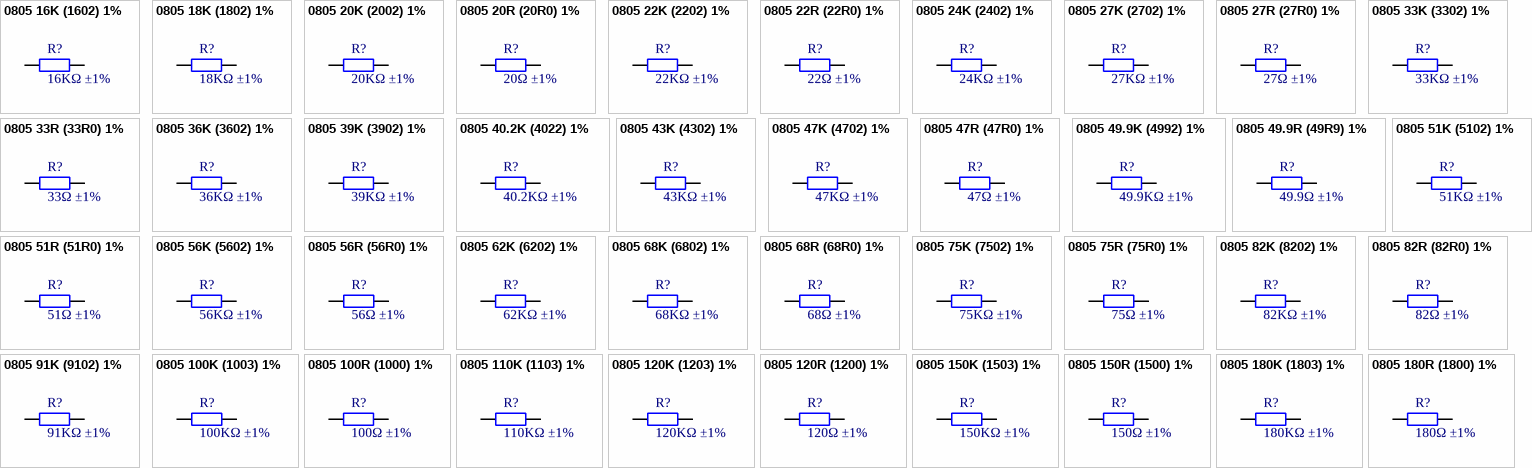
[diagram p6: symbols 0805 16K (1602) 1% to 0805 180R (1800) 1%]

## 0805 16K (1602) 1%
designator R?, comment 16KΩ ±1%
Chip resistor; Manufacturer: Uniroyal Elec; Power: 1/8W; ComponentLink1Description: Supplier link; ComponentLink1URL: http://www.szlcsc.com/product/details_18178.html; Package: 0805; Supplier: LC; SuppliersPartNumber: C17490; Tolerance: 1%
footprint 0805_R
pins: 1, 2

## 0805 18K (1802) 1%
designator R?, comment 18KΩ ±1%
Chip resistor; Manufacturer: Uniroyal Elec; Power: 1/8W; ComponentLink1Description: Supplier link; ComponentLink1URL: http://www.szlcsc.com/product/details_18194.html; Package: 0805; Supplier: LC; SuppliersPartNumber: C17506; Tolerance: 1%
footprint 0805_R
pins: 1, 2

## 0805 20K (2002) 1%
designator R?, comment 20KΩ ±1%
Chip resistor; Manufacturer: Uniroyal Elec; Power: 1/8W; ComponentLink1Description: Supplier link; ComponentLink1URL: http://www.szlcsc.com/product/details_4735.html; Package: 0805; Supplier: LC; SuppliersPartNumber: C4328; Tolerance: 1%
footprint 0805_R
pins: 1, 2

## 0805 20R (20R0) 1%
designator R?, comment 20Ω ±1%
Chip resistor; Manufacturer: Uniroyal Elec; Power: 1/8W; ComponentLink1Description: Supplier link; ComponentLink1URL: http://www.szlcsc.com/product/details_18232.html; Package: 0805; Supplier: LC; SuppliersPartNumber: C17544; Tolerance: 1%
footprint 0805_R
pins: 1, 2

## 0805 22K (2202) 1%
designator R?, comment 22KΩ ±1%
Chip resistor; Manufacturer: Uniroyal Elec; Power: 1/8W; ComponentLink1Description: Supplier link; ComponentLink1URL: http://www.szlcsc.com/product/details_18248.html; Package: 0805; Supplier: LC; SuppliersPartNumber: C17560; Tolerance: 1%
footprint 0805_R
pins: 1, 2

## 0805 22R (22R0) 1%
designator R?, comment 22Ω ±1%
Chip resistor; Manufacturer: Uniroyal Elec; Power: 1/8W; ComponentLink1Description: Supplier link; ComponentLink1URL: http://www.szlcsc.com/product/details_18249.html; Package: 0805; Supplier: LC; SuppliersPartNumber: C17561; Tolerance: 1%
footprint 0805_R
pins: 1, 2

## 0805 24K (2402) 1%
designator R?, comment 24KΩ ±1%
Chip resistor; Manufacturer: Uniroyal Elec; Power: 1/8W; ComponentLink1Description: Supplier link; ComponentLink1URL: http://www.szlcsc.com/product/details_18263.html; Package: 0805; Supplier: LC; SuppliersPartNumber: C17575; Tolerance: 1%
footprint 0805_R
pins: 1, 2

## 0805 27K (2702) 1%
designator R?, comment 27KΩ ±1%
Chip resistor; Manufacturer: Uniroyal Elec; Power: 1/8W; ComponentLink1Description: Supplier link; ComponentLink1URL: http://www.szlcsc.com/product/details_18281.html; Package: 0805; Supplier: LC; SuppliersPartNumber: C17593; Tolerance: 1%
footprint 0805_R
pins: 1, 2

## 0805 27R (27R0) 1%
designator R?, comment 27Ω ±1%
Chip resistor; Manufacturer: Uniroyal Elec; Power: 1/8W; ComponentLink1Description: Supplier link; ComponentLink1URL: http://www.szlcsc.com/product/details_18282.html; Package: 0805; Supplier: LC; SuppliersPartNumber: C17594; Tolerance: 1%
footprint 0805_R
pins: 1, 2

## 0805 33K (3302) 1%
designator R?, comment 33KΩ ±1%
Chip resistor; Manufacturer: Uniroyal Elec; Power: 1/8W; ComponentLink1Description: Supplier link; ComponentLink1URL: http://www.szlcsc.com/product/details_18321.html; Package: 0805; Supplier: LC; SuppliersPartNumber: C17633; Tolerance: 1%
footprint 0805_R
pins: 1, 2

## 0805 33R (33R0) 1%
designator R?, comment 33Ω ±1%
Chip resistor; Manufacturer: Uniroyal Elec; Power: 1/8W; ComponentLink1Description: Supplier link; ComponentLink1URL: http://www.szlcsc.com/product/details_18322.html; Package: 0805; Supplier: LC; SuppliersPartNumber: C17634; Tolerance: 1%
footprint 0805_R
pins: 1, 2

## 0805 36K (3602) 1%
designator R?, comment 36KΩ ±1%
Chip resistor; Manufacturer: Uniroyal Elec; Power: 1/8W; ComponentLink1Description: Supplier link; ComponentLink1URL: http://www.szlcsc.com/product/details_4767.html; Package: 0805; Supplier: LC; SuppliersPartNumber: C4360; Tolerance: 1%
footprint 0805_R
pins: 1, 2

## 0805 39K (3902) 1%
designator R?, comment 39KΩ ±1%
Chip resistor; Manufacturer: Uniroyal Elec; Power: 1/8W; ComponentLink1Description: Supplier link; ComponentLink1URL: http://www.szlcsc.com/product/details_26569.html; Package: 0805; Supplier: LC; SuppliersPartNumber: C25826; Tolerance: 1%
footprint 0805_R
pins: 1, 2

## 0805 40.2K (4022) 1%
designator R?, comment 40.2KΩ ±1%
Chip resistor; Manufacturer: Uniroyal Elec; Power: 1/8W; ComponentLink1Description: Supplier link; ComponentLink1URL: http://www.szlcsc.com/product/details_18366.html; Package: 0805; Supplier: LC; SuppliersPartNumber: C17678; Tolerance: 1%
footprint 0805_R
pins: 1, 2

## 0805 43K (4302) 1%
designator R?, comment 43KΩ ±1%
Chip resistor; Manufacturer: Uniroyal Elec; Power: 1/8W; ComponentLink1Description: Supplier link; ComponentLink1URL: http://www.szlcsc.com/product/details_18383.html; Package: 0805; Supplier: LC; SuppliersPartNumber: C17695; Tolerance: 1%
footprint 0805_R
pins: 1, 2

## 0805 47K (4702) 1%
designator R?, comment 47KΩ ±1%
Chip resistor; Manufacturer: Uniroyal Elec; PartNumber: 0805W8F4702T5E; Power: 1/8W; ComponentLink1Description: Supplier link; ComponentLink1URL: http://www.szlcsc.com/product/details_18401.html; Package: 0805; Supplier: LC; SuppliersPartNumber: C17713; Resistance: 47KΩ; Tolerance: 1%
footprint 0805_R
pins: 1, 2

## 0805 47R (47R0) 1%
designator R?, comment 47Ω ±1%
Chip resistor; Manufacturer: Uniroyal Elec; Power: 1/8W; ComponentLink1Description: Supplier link; ComponentLink1URL: http://www.szlcsc.com/product/details_18402.html; Package: 0805; Supplier: LC; SuppliersPartNumber: C17714; Tolerance: 1%
footprint 0805_R
pins: 1, 2

## 0805 49.9K (4992) 1%
designator R?, comment 49.9KΩ ±1%
Chip resistor; Manufacturer: Uniroyal Elec; Power: 1/8W; ComponentLink1Description: Supplier link; ComponentLink1URL: http://www.szlcsc.com/product/details_18407.html; Package: 0805; Supplier: LC; SuppliersPartNumber: C17719; Tolerance: 1%
footprint 0805_R
pins: 1, 2

## 0805 49.9R (49R9) 1%
designator R?, comment 49.9Ω ±1%
Chip resistor; Manufacturer: Uniroyal Elec; Power: 1/8W; ComponentLink1Description: Supplier link; ComponentLink1URL: http://www.szlcsc.com/product/details_18408.html; Package: 0805; Supplier: LC; SuppliersPartNumber: C17720; Tolerance: 1%
footprint 0805_R
pins: 1, 2

## 0805 51K (5102) 1%
designator R?, comment 51KΩ ±1%
Chip resistor; Manufacturer: Uniroyal Elec; PartNumber: 0805W8F5102T5E; Power: 1/8W; ComponentLink1Description: Supplier link; ComponentLink1URL: http://www.szlcsc.com/product/details_18425.html; Package: 0805; Supplier: LC; SuppliersPartNumber: C17737; Resistance: 51KΩ; Tolerance: 1%
footprint 0805_R
pins: 1, 2

## 0805 51R (51R0) 1%
designator R?, comment 51Ω ±1%
Chip resistor; Manufacturer: Uniroyal Elec; Power: 1/8W; ComponentLink1Description: Supplier link; ComponentLink1URL: http://www.szlcsc.com/product/details_18426.html; Package: 0805; Supplier: LC; SuppliersPartNumber: C17738; Tolerance: 1%
footprint 0805_R
pins: 1, 2

## 0805 56K (5602) 1%
designator R?, comment 56KΩ ±1%
Chip resistor; Manufacturer: Uniroyal Elec; Power: 1/8W; ComponentLink1Description: Supplier link; ComponentLink1URL: http://www.szlcsc.com/product/details_18444.html; Package: 0805; Supplier: LC; SuppliersPartNumber: C17756; Tolerance: 1%
footprint 0805_R
pins: 1, 2

## 0805 56R (56R0) 1%
designator R?, comment 56Ω ±1%
Chip resistor; Manufacturer: Uniroyal Elec; Power: 1/8W; ComponentLink1Description: Supplier link; ComponentLink1URL: http://www.szlcsc.com/product/details_18445.html; Package: 0805; Supplier: LC; SuppliersPartNumber: C17757; Tolerance: 1%
footprint 0805_R
pins: 1, 2

## 0805 62K (6202) 1%
designator R?, comment 62KΩ ±1%
Chip resistor; Manufacturer: Uniroyal Elec; Power: 1/8W; ComponentLink1Description: Supplier link; ComponentLink1URL: http://www.szlcsc.com/product/details_18471.html; Package: 0805; Supplier: LC; SuppliersPartNumber: C17783; Tolerance: 1%
footprint 0805_R
pins: 1, 2

## 0805 68K (6802) 1%
designator R?, comment 68KΩ ±1%
Chip resistor; Manufacturer: Uniroyal Elec; Power: 1/8W; ComponentLink1Description: Supplier link; ComponentLink1URL: http://www.szlcsc.com/product/details_18489.html; Package: 0805; Supplier: LC; SuppliersPartNumber: C17801; Tolerance: 1%
footprint 0805_R
pins: 1, 2

## 0805 68R (68R0) 1%
designator R?, comment 68Ω ±1%
Chip resistor; Manufacturer: Uniroyal Elec; Power: 1/8W; ComponentLink1Description: Supplier link; ComponentLink1URL: http://www.szlcsc.com/product/details_18490.html; Package: 0805; Supplier: LC; SuppliersPartNumber: C17802; Tolerance: 1%
footprint 0805_R
pins: 1, 2

## 0805 75K (7502) 1%
designator R?, comment 75KΩ ±1%
Chip resistor; Manufacturer: Uniroyal Elec; Power: 1/8W; ComponentLink1Description: Supplier link; ComponentLink1URL: http://www.szlcsc.com/product/details_18507.html; Package: 0805; Supplier: LC; SuppliersPartNumber: C17819; Tolerance: 1%
footprint 0805_R
pins: 1, 2

## 0805 75R (75R0) 1%
designator R?, comment 75Ω ±1%
Chip resistor; Manufacturer: Uniroyal Elec; Power: 1/8W; ComponentLink1Description: Supplier link; ComponentLink1URL: http://www.szlcsc.com/product/details_21350.html; Package: 0805; Supplier: LC; SuppliersPartNumber: C20638; Tolerance: 1%
footprint 0805_R
pins: 1, 2

## 0805 82K (8202) 1%
designator R?, comment 82KΩ ±1%
Chip resistor; Manufacturer: Uniroyal Elec; Power: 1/8W; ComponentLink1Description: Supplier link; ComponentLink1URL: http://www.szlcsc.com/product/details_18528.html; Package: 0805; Supplier: LC; SuppliersPartNumber: C17840; Tolerance: 1%
footprint 0805_R
pins: 1, 2

## 0805 82R (82R0) 1%
designator R?, comment 82Ω ±1%
Chip resistor; Manufacturer: Uniroyal Elec; Power: 1/8W; ComponentLink1Description: Supplier link; ComponentLink1URL: http://www.szlcsc.com/product/details_18529.html; Package: 0805; Supplier: LC; SuppliersPartNumber: C17841; Tolerance: 1%
footprint 0805_R
pins: 1, 2

## 0805 91K (9102) 1%
designator R?, comment 91KΩ ±1%
Chip resistor; Manufacturer: Uniroyal Elec; Power: 1/8W; ComponentLink1Description: Supplier link; ComponentLink1URL: http://www.szlcsc.com/product/details_18554.html; Package: 0805; Supplier: LC; SuppliersPartNumber: C17866; Tolerance: 1%
footprint 0805_R
pins: 1, 2

## 0805 100K (1003) 1%
designator R?, comment 100KΩ ±1%
Chip resistor; Manufacturer: Uniroyal Elec; Power: 1/8W; ComponentLink1Description: Supplier link; ComponentLink1URL: http://www.szlcsc.com/product/details_18095.html; Package: 0805; Supplier: LC; SuppliersPartNumber: C17407; Tolerance: 1%
footprint 0805_R
pins: 1, 2

## 0805 100R (1000) 1%
designator R?, comment 100Ω ±1%
Chip resistor; Manufacturer: Uniroyal Elec; Power: 1/8W; ComponentLink1Description: Supplier link; ComponentLink1URL: http://www.szlcsc.com/product/details_18096.html; Package: 0805; Supplier: LC; SuppliersPartNumber: C17408; Tolerance: 1%
footprint 0805_R
pins: 1, 2

## 0805 110K (1103) 1%
designator R?, comment 110KΩ ±1%
Chip resistor; Manufacturer: Uniroyal Elec; Power: 1/8W; ComponentLink1Description: Supplier link; ComponentLink1URL: http://www.szlcsc.com/product/details_18110.html; Package: 0805; Supplier: LC; SuppliersPartNumber: C17422; Tolerance: 1%
footprint 0805_R
pins: 1, 2

## 0805 120K (1203) 1%
designator R?, comment 120KΩ ±1%
Chip resistor; Manufacturer: Uniroyal Elec; Power: 1/8W; ComponentLink1Description: Supplier link; ComponentLink1URL: http://www.szlcsc.com/product/details_18124.html; Package: 0805; Supplier: LC; SuppliersPartNumber: C17436; Tolerance: 1%
footprint 0805_R
pins: 1, 2

## 0805 120R (1200) 1%
designator R?, comment 120Ω ±1%
Chip resistor; Manufacturer: Uniroyal Elec; Power: 1/8W; ComponentLink1Description: Supplier link; ComponentLink1URL: http://www.szlcsc.com/product/details_18125.html; Package: 0805; Supplier: LC; SuppliersPartNumber: C17437; Tolerance: 1%
footprint 0805_R
pins: 1, 2

## 0805 150K (1503) 1%
designator R?, comment 150KΩ ±1%
Chip resistor; Manufacturer: Uniroyal Elec; Power: 1/8W; ComponentLink1Description: Supplier link; ComponentLink1URL: http://www.szlcsc.com/product/details_18158.html; Package: 0805; Supplier: LC; SuppliersPartNumber: C17470; Tolerance: 1%
footprint 0805_R
pins: 1, 2